# Altium schematic symbol library Schlib1.SchLib: 1 symbol
Pins are listed as number, name and electrical type; pins without a type are passive.

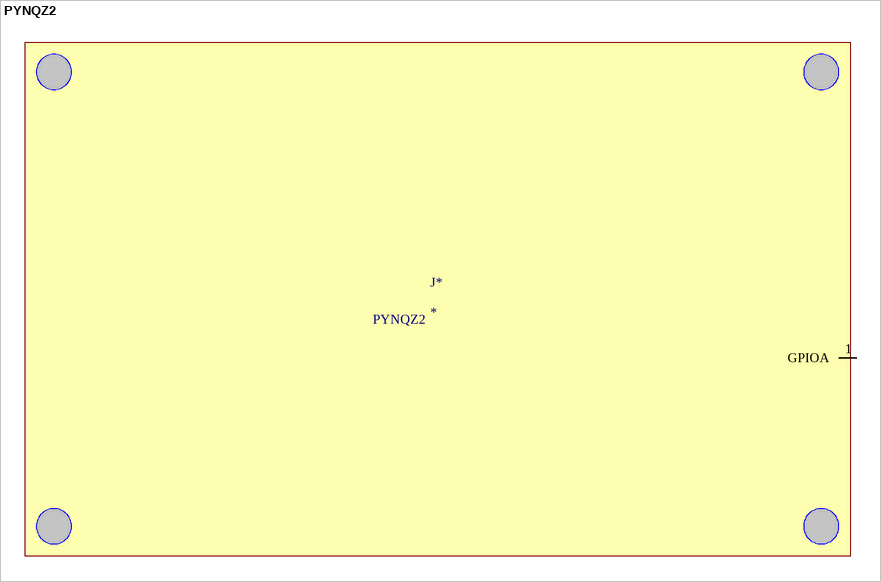
[diagram p0: symbol PYNQZ2]

## PYNQZ2
designator J*
footprint PYNQZ2_board
pins: 1 GPIOA